# Altium footprint library Taiyo Yuden.PcbLib: 33 footprints (part 1 of 3)
Each footprint in its own frame and in the unit in brackets; x right, y up, seen from the top. Pads: shape width x height; smd on the part's side, far side on the other; paste and mask are expansions set on the pad; w line width, h text height; cw(c..) or ccw(c..) is an arc to the next point about the centre after c.
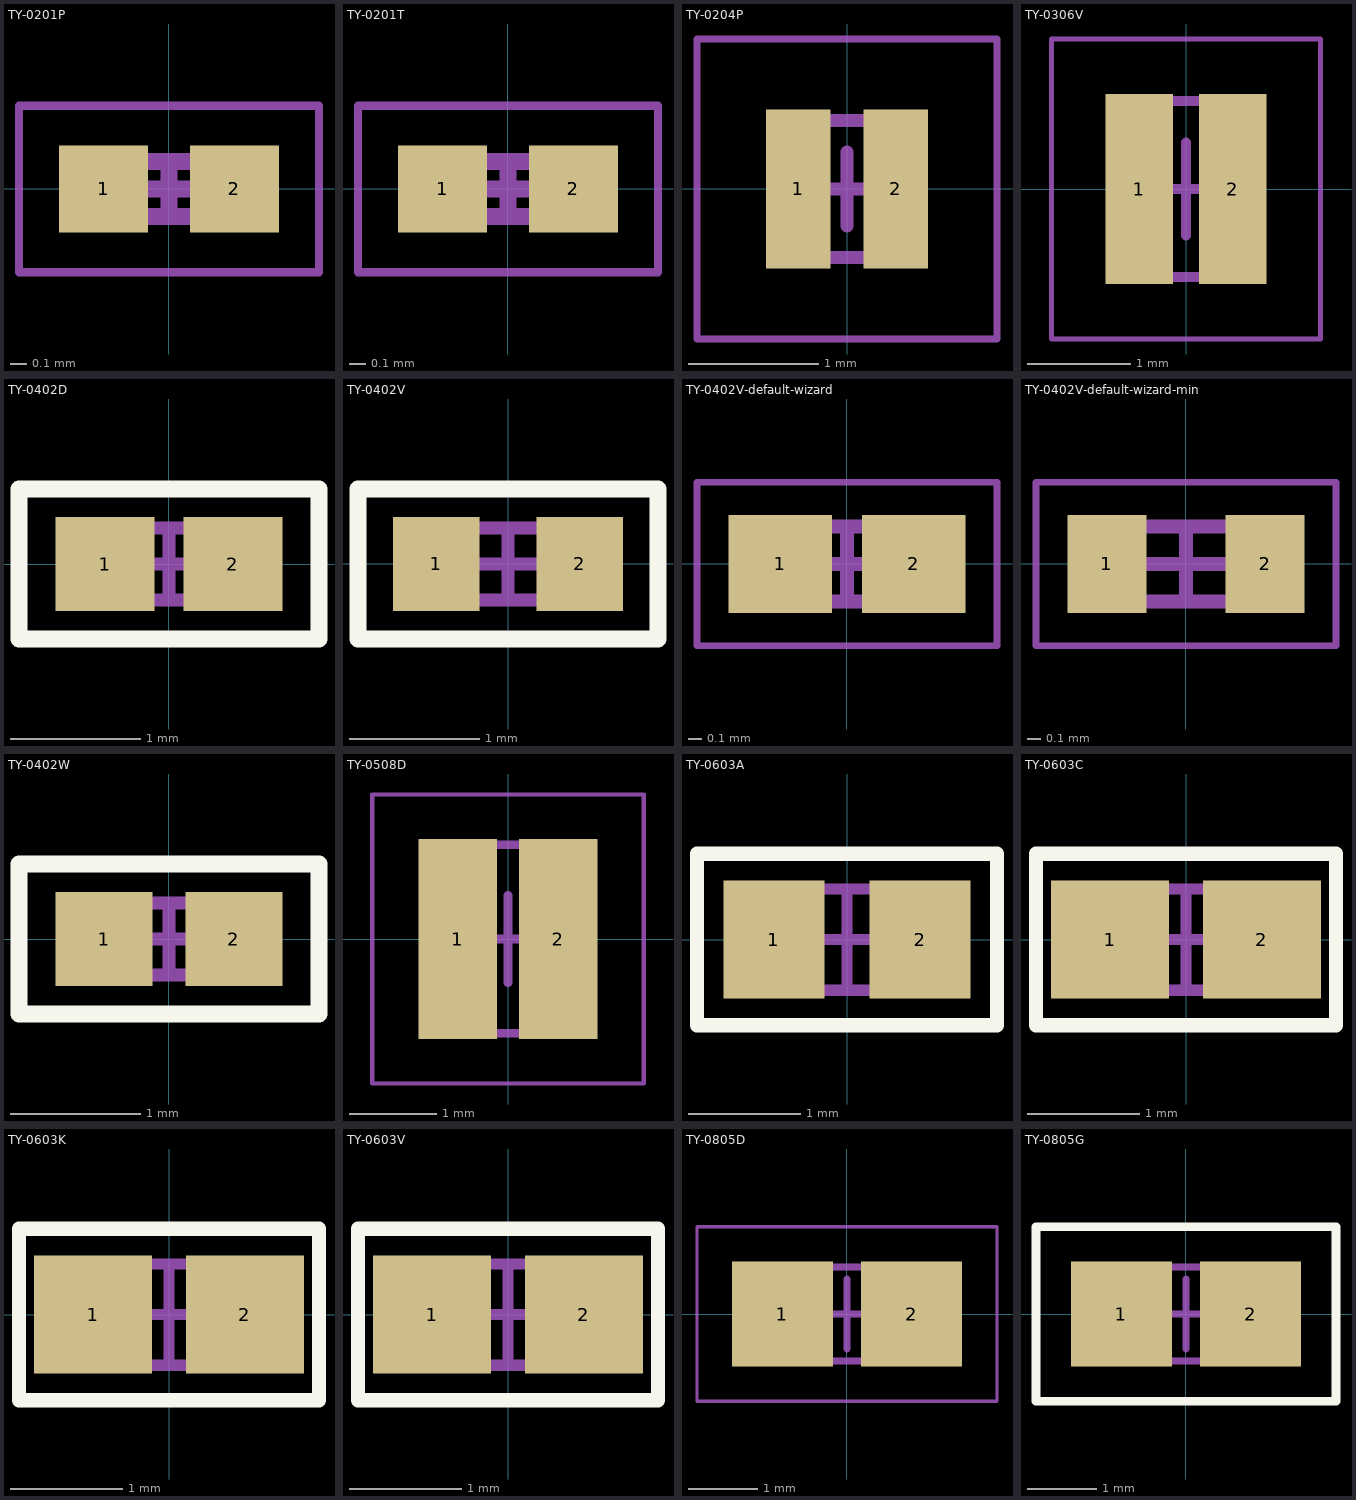
[diagram p0: the footprints below, top view; thin cyan lines are the x and y axes]

## TY-0201P [mm] "Chip Capacitor, 2-Leads, Body 0.60x0.30mm, IPC Low Density"
height 0.33
pads (2):
  rect 0.535x0.52 smd: 1(-0.393,0) 2(0.393,0)
Mechanical 13:
  lines w0.1: -0.315,-0.165 -0.315,0.165 0.315,0.165 0.315,-0.165 -0.315,-0.165
Mechanical 15:
  lines w0.05: -0.9,-0.5 -0.9,0.5 0.9,0.5 0.9,-0.5 -0.9,-0.5
  lines w0.1: -0.165,0 0.165,0 ; 0,-0.165 0,0.165
3D body: height 0.33, standoff 0, extent -0.165,-0.165 0.165,0.165
3D body: height 0.33, standoff 0, extent -0.315,-0.165 -0.165,0.165
3D body: height 0.33, standoff 0, extent 0.165,-0.165 0.315,0.165

## TY-0201T [mm] "Chip Capacitor, 2-Leads, Body 0.60x0.30mm, IPC Low Density"
height 0.33
pads (2):
  rect 0.535x0.52 smd: 1(-0.393,0) 2(0.393,0)
Mechanical 13:
  lines w0.1: -0.315,-0.165 0.315,-0.165 0.315,0.165 -0.315,0.165 -0.315,-0.165
Mechanical 15:
  lines w0.05: -0.9,-0.5 0.9,-0.5 0.9,0.5 -0.9,0.5 -0.9,-0.5
  lines w0.1: -0.165,0 0.165,0 ; 0,-0.165 0,0.165
3D body: height 0.33, standoff 0, extent 0.165,-0.165 0.315,0.165
3D body: height 0.33, standoff 0, extent -0.315,-0.165 -0.165,0.165
3D body: height 0.33, standoff 0, extent -0.165,-0.165 0.165,0.165

## TY-0204P [mm] "Chip Capacitor, 2-Leads, Body 0.52x1.00mm, IPC Low Density"
height 0.35
pads (2):
  rect 0.495x1.22 smd: 1(-0.373,0) 2(0.373,0)
Mechanical 13:
  lines w0.1: -0.285,-0.525 0.285,-0.525 0.285,0.525 -0.285,0.525 -0.285,-0.525
Mechanical 15:
  lines w0.05: -1.15,-1.15 1.15,-1.15 1.15,1.15 -1.15,1.15 -1.15,-1.15
  lines w0.1: -0.285,0 0.285,0 ; 0,-0.285 0,0.285
3D body: height 0.35, standoff 0, extent 0.105,-0.525 0.285,0.525
3D body: height 0.35, standoff 0, extent -0.285,-0.525 -0.105,0.525
3D body: height 0.35, standoff 0, extent -0.105,-0.525 0.105,0.525

## TY-0306V [mm] "Chip Capacitor, 2-Leads, Body 0.80x1.60mm, IPC Low Density"
height 0.55
pads (2):
  rect 0.655x1.84 smd: 1(-0.453,0) 2(0.453,0)
Mechanical 13:
  lines w0.1: -0.45,-0.85 -0.45,0.85 0.45,0.85 0.45,-0.85 -0.45,-0.85
Mechanical 15:
  lines w0.05: -1.3,-1.45 -1.3,1.45 1.3,1.45 1.3,-1.45 -1.3,-1.45
  lines w0.1: -0.45,0 0.45,0 ; 0,-0.45 0,0.45
3D body: height 0.55, standoff 0, extent -0.2,-0.85 0.2,0.85
3D body: height 0.55, standoff 0, extent -0.45,-0.85 -0.2,0.85
3D body: height 0.55, standoff 0, extent 0.2,-0.85 0.45,0.85

## TY-0402D [mm] "Chip Capacitor, 2-Leads, Body 1.00x0.50mm, IPC Low Density"
height 0.55
pads (2):
  rect 0.76x0.72 smd: 1(-0.49,0) 2(0.49,0)
Top Overlay:
  lines w0.127: -1.15,-0.575 -1.15,0.575 1.15,0.575 1.15,-0.575 -1.15,-0.575
Top Assembly:
  lines w0.1: -0.525,-0.275 0.525,-0.275 0.525,0.275 -0.525,0.275 -0.525,-0.275
Top Courtyard:
  lines w0.05: -1.15,-0.575 1.15,-0.575 1.15,0.575 -1.15,0.575 -1.15,-0.575
  lines w0.1: -0.275,0 0.275,0 ; 0,-0.275 0,0.275
3D body "TY-0402D.step": height 0.55, standoff 0, extent -0.525,-0.275 0.525,0.275

## TY-0402V [mm] "Chip Capacitor, 2-Leads, Body 1.00x0.50mm, IPC Low Density"
height 0.55
pads (2):
  rect 0.66x0.72 smd: 1(-0.55,0) 2(0.55,0)
Top Overlay:
  lines w0.127: -1.15,-0.575 -1.15,0.575 1.15,0.575 1.15,-0.575 -1.15,-0.575
Top Assembly:
  lines w0.1: -0.525,-0.275 -0.525,0.275 ; 0.525,-0.275 0.525,0.275
Top Courtyard:
  lines w0.05: -1.15,-0.575 1.15,-0.575 1.15,0.575 -1.15,0.575 -1.15,-0.575
  lines w0.1: -0.275,0 0.275,0 ; 0,-0.275 0,0.275
Mechanical 13:
  lines w0.1: -0.525,-0.275 -0.525,0.275 0.525,0.275 0.525,-0.275 -0.525,-0.275
Mechanical 15:
  lines w0.1: -0.275,0 0.275,0 ; 0,-0.275 0,0.275
3D body "TY-0402V_temp.step": height 0.55, standoff 0, extent -0.525,-0.275 0.525,0.275

## TY-0402V-default-wizard [mm] "Chip Capacitor, 2-Leads, Body 1.00x0.50mm, IPC Low Density"
height 0.55
pads (2):
  rect 0.76x0.72 smd: 1(-0.49,0) 2(0.49,0)
Top Assembly:
  lines w0.1: -0.525,-0.275 -0.525,0.275 0.525,0.275 0.525,-0.275 -0.525,-0.275
Top Courtyard:
  lines w0.05: -1.1,-0.6 -1.1,0.6 1.1,0.6 1.1,-0.6 -1.1,-0.6
  lines w0.1: -0.275,0 0.275,0 ; 0,-0.275 0,0.275
3D body "default_wizard_TY-0402V.step": height 0.55, standoff 0, extent -0.525,-0.275 0.525,0.275

## TY-0402V-default-wizard-min [mm] "Chip Capacitor, 2-Leads, Body 1.00x0.50mm, IPC Low Density"
height 0.55
pads (2):
  rect 0.58x0.72 smd: 1(-0.58,0) 2(0.58,0)
Top Assembly:
  lines w0.1: -0.525,-0.275 -0.525,0.275 0.525,0.275 0.525,-0.275 -0.525,-0.275
Top Courtyard:
  lines w0.05: -1.1,-0.6 -1.1,0.6 1.1,0.6 1.1,-0.6 -1.1,-0.6
  lines w0.1: -0.275,0 0.275,0 ; 0,-0.275 0,0.275
3D body: height 0.55, standoff 0, extent -0.375,-0.275 0.375,0.275
3D body: height 0.55, standoff 0, extent -0.525,-0.275 -0.375,0.275
3D body: height 0.55, standoff 0, extent 0.375,-0.275 0.525,0.275

## TY-0402W [mm] "Chip Capacitor, 2-Leads, Body 1.00x0.50mm, IPC Low Density"
height 0.55
pads (2):
  rect 0.745x0.72 smd: 1(-0.497,0) 2(0.497,0)
Top Overlay:
  lines w0.127: -1.15,-0.575 1.15,-0.575 1.15,0.575 -1.15,0.575 -1.15,-0.575
Top Assembly:
  lines w0.1: -0.525,-0.275 0.525,-0.275 0.525,0.275 -0.525,0.275 -0.525,-0.275
Top Courtyard:
  lines w0.05: -1.15,-0.575 -1.15,0.575 1.15,0.575 1.15,-0.575 -1.15,-0.575
  lines w0.1: -0.275,0 0.275,0 ; 0,-0.275 0,0.275
3D body: height 0.55, standoff 0, extent -0.525,-0.275 -0.275,0.275
3D body: height 0.55, standoff 0, extent -0.275,-0.275 0.275,0.275
3D body: height 0.55, standoff 0, extent 0.275,-0.275 0.525,0.275

## TY-0508D [mm] "Chip Capacitor, 2-Leads, Body 1.25x2.00mm, IPC Low Density"
height 0.95
pads (2):
  rect 0.895x2.28 smd: 1(-0.573,0) 2(0.573,0)
Mechanical 13:
  lines w0.1: -0.7,-1.075 0.7,-1.075 0.7,1.075 -0.7,1.075 -0.7,-1.075
Mechanical 15:
  lines w0.05: -1.55,-1.65 1.55,-1.65 1.55,1.65 -1.55,1.65 -1.55,-1.65
  lines w0.1: -0.5,0 0.5,0 ; 0,-0.5 0,0.5
3D body: height 0.95, standoff 0, extent 0.4,-1.075 0.7,1.075
3D body: height 0.95, standoff 0, extent -0.7,-1.075 -0.4,1.075
3D body: height 0.95, standoff 0, extent -0.4,-1.075 0.4,1.075

## TY-0603A [mm] "Chip Capacitor, 2-Leads, Body 1.60x0.80mm, IPC Low Density"
height 0.9
pads (2):
  rect 0.9x1.05 smd: 1(-0.65,0) 2(0.65,0)
Top Overlay:
  lines w0.127: -1.333,-0.762 -1.333,0.762 1.333,0.762 1.333,-0.762 -1.333,-0.762
Top Assembly:
  lines w0.1: -0.85,-0.45 0.85,-0.45 0.85,0.45 -0.85,0.45 -0.85,-0.45
Top Courtyard:
  lines w0.05: 1.333,0.762 -1.333,0.762 -1.333,-0.762 1.333,-0.762 1.333,0.771
  lines w0.1: -0.45,0 0.45,0 ; 0,-0.45 0,0.45
3D body: height 0.9, standoff 0, extent -0.85,-0.45 -0.5,0.45
3D body: height 0.9, standoff 0, extent -0.5,-0.45 0.5,0.45
3D body: height 0.9, standoff 0, extent 0.5,-0.45 0.85,0.45

## TY-0603C [mm] "Chip Capacitor, 2-Leads, Body 1.60x0.80mm, IPC Low Density"
height 0.8
pads (2):
  rect 1.05x1.05 smd: 1(-0.675,0) 2(0.675,0)
Top Overlay:
  lines w0.127: -1.333,-0.762 -1.333,0.762 1.333,0.762 1.333,-0.762 -1.333,-0.762
Top Assembly:
  lines w0.1: -0.85,-0.45 0.85,-0.45 0.85,0.45 -0.85,0.45 -0.85,-0.45
Top Courtyard:
  lines w0.05: 1.333,0.762 -1.333,0.762 -1.333,-0.762 1.333,-0.762 1.333,0.771
  lines w0.1: -0.45,0 0.45,0 ; 0,-0.45 0,0.45
3D body: height 0.8, standoff 0, extent -0.85,-0.45 -0.5,0.45
3D body: height 0.8, standoff 0, extent -0.5,-0.45 0.5,0.45
3D body: height 0.8, standoff 0, extent 0.5,-0.45 0.85,0.45

## TY-0603K [mm] "Chip Capacitor, 2-Leads, Body 1.60x0.80mm, IPC Low Density"
height 0.5
pads (2):
  rect 1.05x1.05 smd: 1(-0.675,0) 2(0.675,0)
Top Overlay:
  lines w0.127: -1.333,-0.762 -1.333,0.762 1.333,0.762 1.333,-0.762 -1.333,-0.762
Top Assembly:
  lines w0.1: -0.85,-0.45 -0.85,0.45 0.85,0.45 0.85,-0.45 -0.85,-0.45
Top Courtyard:
  lines w0.05: 1.333,0.762 -1.333,0.762 -1.333,-0.762 1.333,-0.762 1.333,0.771
  lines w0.1: -0.45,0 0.45,0 ; 0,-0.45 0,0.45
3D body: height 0.5, standoff 0, extent 0.5,-0.45 0.85,0.45
3D body: height 0.5, standoff 0, extent -0.5,-0.45 0.5,0.45
3D body: height 0.5, standoff 0, extent -0.85,-0.45 -0.5,0.45

## TY-0603V [mm] "Chip Capacitor, 2-Leads, Body 1.60x0.80mm, IPC Low Density"
height 0.55
pads (2):
  rect 1.05x1.05 smd: 1(-0.675,0) 2(0.675,0)
Top Overlay:
  lines w0.127: -1.333,-0.762 -1.333,0.762 1.333,0.762 1.333,-0.762 -1.333,-0.762
Top Assembly:
  lines w0.1: -0.85,-0.45 -0.85,0.45 0.85,0.45 0.85,-0.45 -0.85,-0.45
Top Courtyard:
  lines w0.05: 1.333,0.762 -1.333,0.762 -1.333,-0.762 1.333,-0.762 1.333,0.771
  lines w0.1: -0.45,0 0.45,0 ; 0,-0.45 0,0.45
3D body: height 0.55, standoff 0, extent 0.5,-0.45 0.85,0.45
3D body: height 0.55, standoff 0, extent -0.5,-0.45 0.5,0.45
3D body: height 0.55, standoff 0, extent -0.85,-0.45 -0.5,0.45

## TY-0805D [mm] "Chip Capacitor, 2-Leads, Body 2.00x1.25mm, IPC Low Density"
height 0.95
pads (2):
  rect 1.45x1.5 smd: 1(-0.925,0) 2(0.925,0)
Mechanical 13:
  lines w0.1: -1.05,-0.675 -1.05,0.675 1.05,0.675 1.05,-0.675 -1.05,-0.675
Mechanical 15:
  lines w0.05: -2.15,-1.25 -2.15,1.25 2.15,1.25 2.15,-1.25 -2.15,-1.25
  lines w0.1: -0.5,0 0.5,0 ; 0,-0.5 0,0.5
3D body: height 0.95, standoff 0, extent -0.55,-0.675 0.55,0.675
3D body: height 0.95, standoff 0, extent -1.05,-0.675 -0.55,0.675
3D body: height 0.95, standoff 0, extent 0.55,-0.675 1.05,0.675

## TY-0805G [mm] "Chip Capacitor, 2-Leads, Body 2.00x1.25mm, IPC Low Density"
height 1.35
pads (2):
  rect 1.45x1.5 smd: 1(-0.925,0) 2(0.925,0)
Top Overlay:
  lines w0.127: -2.15,-1.25 2.15,-1.25 2.15,1.25 -2.15,1.25 -2.15,-1.25
Mechanical 13:
  lines w0.1: -1.05,-0.675 1.05,-0.675 1.05,0.675 -1.05,0.675 -1.05,-0.675
Mechanical 15:
  lines w0.05: -2.15,-1.25 -2.15,1.25 2.15,1.25 2.15,-1.25 -2.15,-1.25
  lines w0.1: -0.5,0 0.5,0 ; 0,-0.5 0,0.5
3D body: height 1.35, standoff 0, extent 0.55,-0.675 1.05,0.675
3D body: height 1.35, standoff 0, extent -1.05,-0.675 -0.55,0.675
3D body: height 1.35, standoff 0, extent -0.55,-0.675 0.55,0.675